# Altium footprint library 3v3_ESD_bidir.PcbLib: 3 footprints
Each footprint in its own frame and in the unit in brackets; x right, y up, seen from the top. Pads: shape width x height; smd on the part's side, far side on the other; paste and mask are expansions set on the pad; w line width, h text height; cw(c..) or ccw(c..) is an arc to the next point about the centre after c.
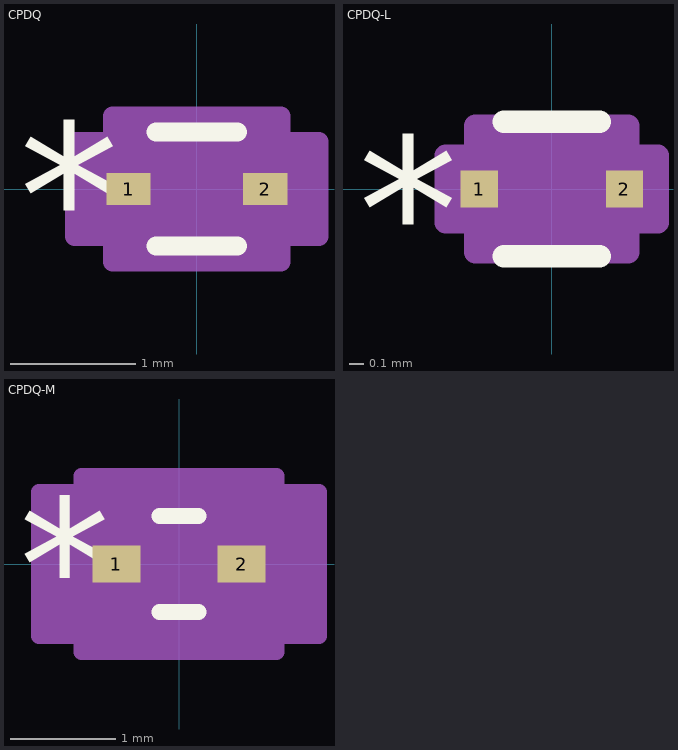
[diagram p0: the footprints below, top view; thin cyan lines are the x and y axes]

## CPDQ [mil]
pads (2):
  rect 14x10 smd paste+0 mask+0: 1(-21.5,0) 2(21.5,0)
Top Overlay:
  lines w6: -12.88,-18 12.88,-18 ; -12.88,18 12.88,18
  text "*" at -56,-25 h50
Mechanical 13:
  lines w1: -16.5,-6.5 -10,-13 ; -16.5,6.5 -10,13 ; -20.5,-5 -16.5,-5 -16.5,5 -20.5,5 -20.5,-5 ; -16.5,-13 -16.5,13 16.5,13 16.5,-13 -16.5,-13 ; 16.5,-5 20.5,-5 20.5,5 16.5,5 16.5,-5
  text "*" at -19,-25 h50
Mechanical 15:
  region: -26.5,-15 -38.5,-15 -38.5,15 -26.5,15 -26.5,23 26.5,23 26.5,15 38.5,15 38.5,-15 26.5,-15 26.5,-23 -26.5,-23
  lines w6: -38.5,-15 -26.5,-15 -26.5,-23 26.5,-23 26.5,-15 38.5,-15 38.5,15 26.5,15 26.5,23 -26.5,23 -26.5,15 -38.5,15 -38.5,-15
3D body: height 10, standoff 0, extent 0,0 10,10
3D body "CPDQ.stp": height 32.24, standoff 0, extent -20.5,-12.99 20.52,13

## CPDQ-L [mil]
pads (2):
  rect 10x10 smd paste+0 mask+0: 1(-19.5,0) 2(19.5,0)
Top Overlay:
  lines w6: -12.88,-18 12.88,-18 ; -12.88,18 12.88,18
  text "*" at -52,-25 h50
Mechanical 13:
  lines w1: -16.5,-6.5 -10,-13 ; -16.5,6.5 -10,13 ; -20.5,-5 -16.5,-5 -16.5,5 -20.5,5 -20.5,-5 ; -16.5,-13 -16.5,13 16.5,13 16.5,-13 -16.5,-13 ; 16.5,-5 20.5,-5 20.5,5 16.5,5 16.5,-5
  text "*" at -19,-25 h50
Mechanical 15:
  region: -20.5,-9 -28.5,-9 -28.5,9 -20.5,9 -20.5,17 20.5,17 20.5,9 28.5,9 28.5,-9 20.5,-9 20.5,-17 -20.5,-17
  lines w6: -28.5,-9 -20.5,-9 -20.5,-17 20.5,-17 20.5,-9 28.5,-9 28.5,9 20.5,9 20.5,17 -20.5,17 -20.5,9 -28.5,9 -28.5,-9
3D body: height 10, standoff 0, extent 0,0 10,10
3D body "CPDQ-L.stp": height 32.24, standoff 0, extent -20.5,-12.99 20.52,13

## CPDQ-M [mil]
pads (2):
  rect 18x14 smd paste+0 mask+0: 1(-23.5,0) 2(23.5,0)
Top Overlay:
  lines w6: -7.39,-18 7.39,-18 ; -7.39,18 7.39,18
  text "*" at -60,-25 h50
Mechanical 13:
  lines w1: -16.5,-6.5 -10,-13 ; -16.5,6.5 -10,13 ; -20.5,-5 -16.5,-5 -16.5,5 -20.5,5 -20.5,-5 ; -16.5,-13 -16.5,13 16.5,13 16.5,-13 -16.5,-13 ; 16.5,-5 20.5,-5 20.5,5 16.5,5 16.5,-5
  text "*" at -19,-25 h50
Mechanical 15:
  region: -36.5,-27 -52.5,-27 -52.5,27 -36.5,27 -36.5,33 36.5,33 36.5,27 52.5,27 52.5,-27 36.5,-27 36.5,-33 -36.5,-33
  lines w6: -52.5,-27 -36.5,-27 -36.5,-33 36.5,-33 36.5,-27 52.5,-27 52.5,27 36.5,27 36.5,33 -36.5,33 -36.5,27 -52.5,27 -52.5,-27
3D body: height 10, standoff 0, extent 0,0 10,10
3D body "CPDQ-M.stp": height 32.24, standoff 0, extent -20.51,-12.99 20.52,13